# EAGLE library part 68800711722 (library Wire_to_Board_Connectors_rev15d)
WR-WTB 2.50mm "J"Type Male Horizontal Shrouded Header, 7 Pins=>Code : WTB_2.50-J_PCB_THT_68800711722 <http://katalog.we-online.de/media/thumbs2/eican/thb_Con_WTB_2.50-J_PCB_THT_6880xx11722_pf2%20(2).jpg> Details see: http://katalog.we-online.de/en/em/688_0xx_117_22 Created 2014-06-05, Karrer Zheng 2014 (C) Würth Elektronik
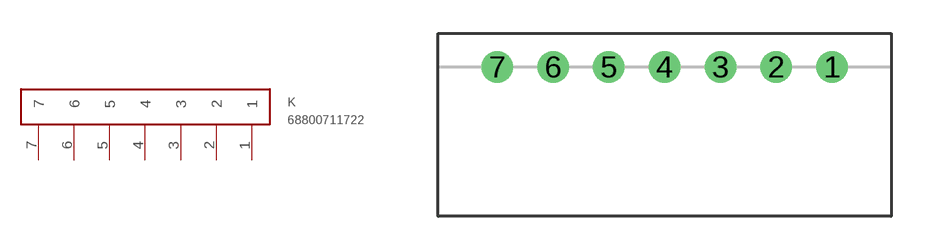
[diagram p19: symbol with the pads of 68800711722; footprint 68800711722]

Designator prefix K

## 68800711722  [68800711722]
1  1  pas
2  2  pas
3  3  pas
4  4  pas
5  5  pas
6  6  pas
7  7  pas

## Footprint 68800711722 (pad centres in mm)
WR-WTB 2.50mm "J" Type Male Horizontal Shrouded Header, 7 Pins
drill 0.9: 1 1.25,0; 2 -1.25,0; 3 -3.75,0; 4 -6.25,0; 5 -8.75,0; 6 -11.25,0; 7 -13.75,0